# Altium schematic symbol library Cap_Electrolitic_THT_Sch.SchLib: 3 symbols
Pins are listed as number, name and electrical type; pins without a type are passive.

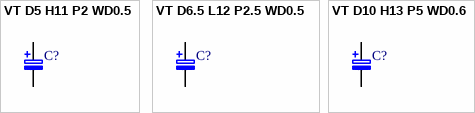
[diagram p0: symbols VT D5 H11 P2 WD0.5 to VT D10 H13 P5 WD0.6]

## VT D5 H11 P2 WD0.5
designator C?
Vertical Radial 5x11x2x0.5; Tolerance: 20%; Temp Class: 105C; Pitch: 2mm; Wire Diameter: 0.5mm; ComponentLink1Description: Link; Diameter: 10mm; Length: 11mm; Mounting: Vertical
footprint VT D5-H11-P2-WD0.5 (Radial Capacitor)
pins: 1 +, 2 -

## VT D6.5 L12 P2.5 WD0.5
designator C?
Vertical Radial 6.5x12x2x0.5; Tolerance: 20%; Temp Class: 105C; Pitch: 2.5mm; Wire Diameter: 0.5mm; ComponentLink1Description: Link; Diameter: 6.5mm; Length: 12mm; Mounting: Vertical
footprint VT D6.5-H12-P2.5-WD0.5 (Radial Capacitor)
pins: 1 +, 2 -

## VT D10 H13 P5 WD0.6
designator C?
Vertical Radial 10x13x5x0.6; Tolerance: 20%; Temp Class: 105C; Pitch: 5mm; Wire Diameter: 0.6mm; ComponentLink1Description: Link; Diameter: 10mm; Length: 13mm; Mounting: Vertical
footprint VT D10-H13-P5-WD0.6 (10MM Diameter, 5MM Lead Spacing Aluminium Capacitor)
pins: 1 +, 2 -